# Altium footprint library lib_test.PcbLib: 3 footprints
Each footprint in its own frame and in the unit in brackets; x right, y up, seen from the top. Pads: shape width x height; smd on the part's side, far side on the other; paste and mask are expansions set on the pad; w line width, h text height; cw(c..) or ccw(c..) is an arc to the next point about the centre after c.
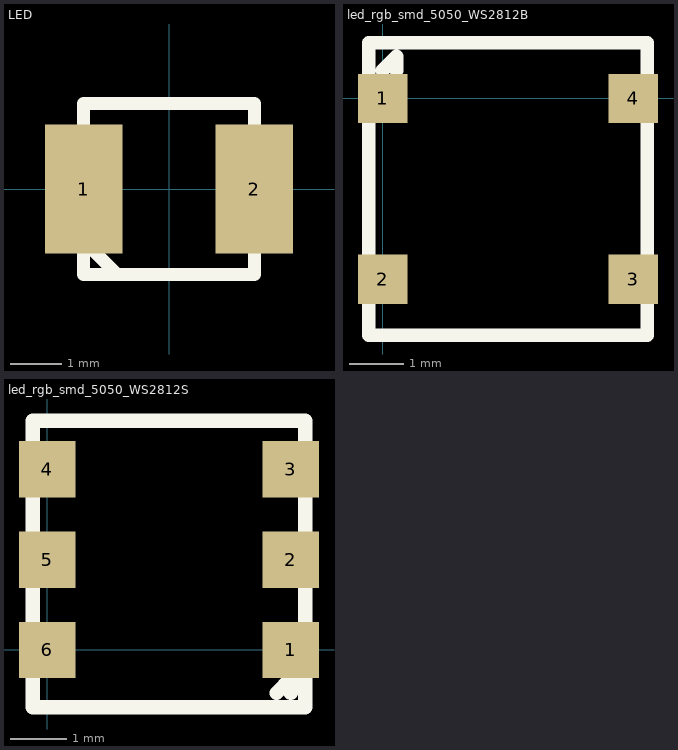
[diagram p0: the footprints below, top view; thin cyan lines are the x and y axes]

## LED [mm]
pads (2):
  rect 1.524x2.54 smd: 1(-1.68,0) 2(1.68,0)
Top Overlay:
  lines w0.254: -1.68,-1.016 -1.016,-1.68 ; -1.68,-1.68 -1.68,1.68 1.68,1.68 1.68,-1.68 -1.68,-1.68

## led_rgb_smd_5050_WS2812B [mm] "LED rgb in smd package 5050 and driver WS2812B"
pads (4):
  rect 0.9x0.9 smd: 1(0,0) 2(0,-3.3) 3(4.572,-3.3) 4(4.572,0)
Top Overlay:
  lines w0.254: 0,0.508 0.254,0.762 0.254,0.508 ; -0.254,-4.318 -0.254,1.016 4.826,1.016 4.826,-4.318 -0.254,-4.318

## led_rgb_smd_5050_WS2812S [mm] "LED rgb in smd package 5050 and driver WS2812S"
pads (6):
  rect 1x1 smd: 1(4.318,0) 2(4.318,1.6) 3(4.318,3.2) 4(0,3.2) 5(0,1.6) 6(0,0)
Top Overlay:
  lines w0.254: 4.064,-0.762 4.318,-0.508 4.318,-0.762 ; -0.254,-1.016 4.572,-1.016 4.572,4.064 -0.254,4.064 -0.254,-1.016